# EAGLE library part ATMEL_BY_ELEMENT14_BATCH_1-00_ATTINY85-20SU (library brake-light-tester)
8-bit Microcontroller with In-System Programmable Flash
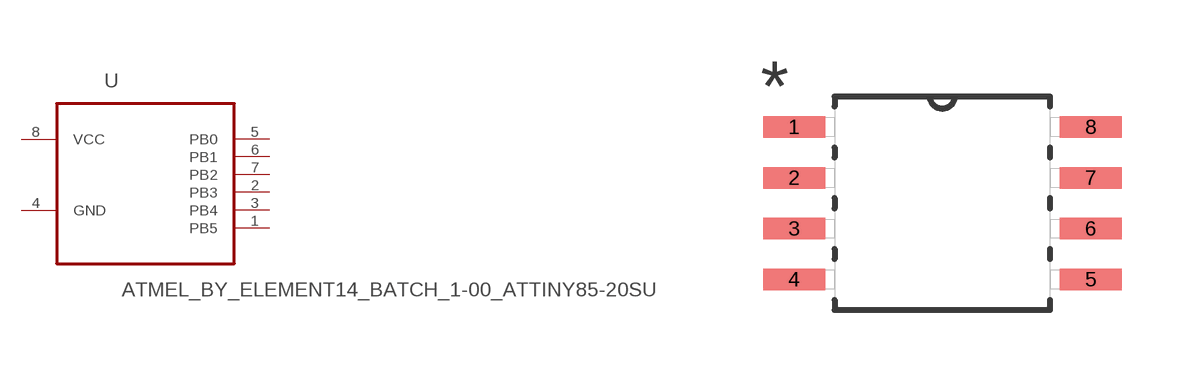
[diagram p0: symbol with the pads of ATMEL_BY_ELEMENT14_BATCH_1-00_SOIC127P798X216-8N; footprint ATMEL_BY_ELEMENT14_BATCH_1-00_SOIC127P798X216-8N]

Designator prefix U

## ATMEL_BY_ELEMENT14_BATCH_1-00_ATTINY85-20SU (MPN: ATTINY85-20SU; OC_FARNELL: 1455164; OC_NEWARK: 58M3797; PACKAGE: SOIC-8; SUPPLIER: Atmel)  [ATMEL_BY_ELEMENT14_BATCH_1-00_SOIC127P798X216-8N]
1  PB5
2  PB3
3  PB4
4  GND  pas
5  PB0
6  PB1
7  PB2
8  VCC  pwr

## Footprint ATMEL_BY_ELEMENT14_BATCH_1-00_SOIC127P798X216-8N (pad centres in mm)
smd 1.549 x 0.533: 1 -3.708,1.905; 2 -3.708,0.635; 3 -3.708,-0.635; 4 -3.708,-1.905; 5 3.708,-1.905; 6 3.708,-0.635; 7 3.708,0.635; 8 3.708,1.905